# EAGLE library part ISD1740 (library rlc)
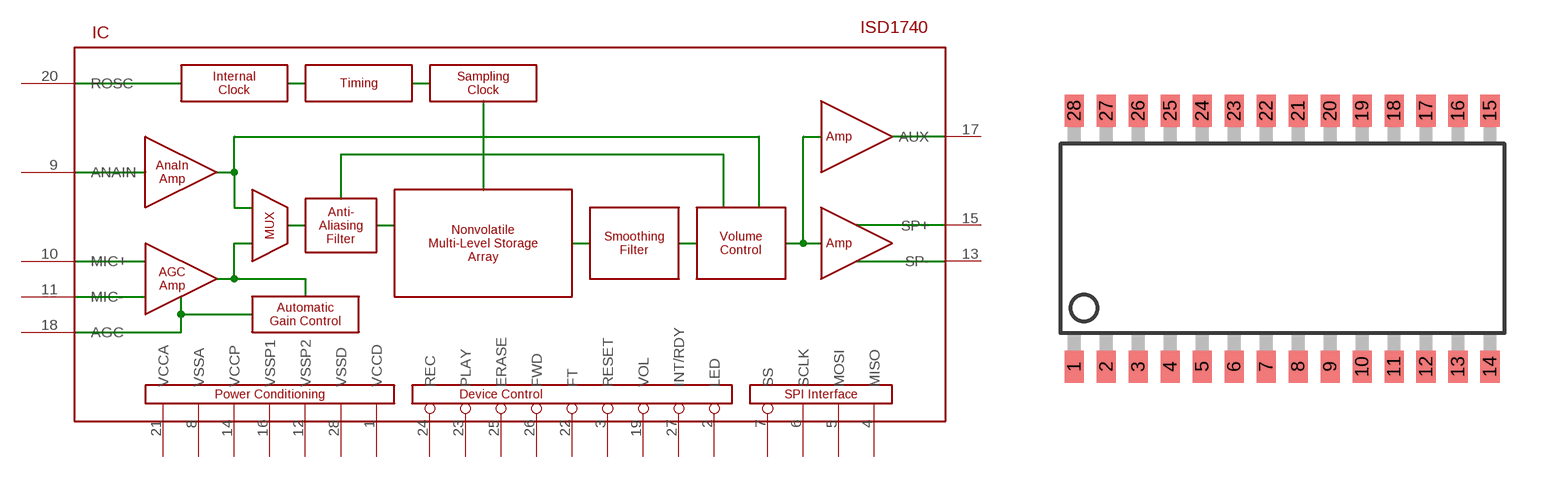
[diagram p5: symbol with the pads of SO-28W; footprint SO-28W]

Designator prefix IC

## ISD1740  [SO-28W]
1  VCCD
2  LED
3  RESET
4  MISO
5  MOSI
6  SCLK
7  SS
8  VSSA
9  ANAIN
10  MIC+
11  MIC-
12  VSSP2
13  SP-
14  VCCP
15  SP+
16  VSSP1
17  AUX
18  AGC
19  VOL
20  ROSC
21  VCCA
22  FT
23  PLAY
24  REC
25  ERASE
26  FWD
27  INT/RDY
28  VSSD

## Footprint SO-28W (pad centres in mm)
Small Outline Wide Plastic Gull Wing 300-mil body, package type SO
smd 0.762 x 1.27: 1 -8.255,-5.08; 2 -6.985,-5.08; 3 -5.715,-5.08; 4 -4.445,-5.08; 5 -3.175,-5.08; 6 -1.905,-5.08; 7 -0.635,-5.08; 8 0.635,-5.08; 9 1.905,-5.08; 10 3.175,-5.08; 11 4.445,-5.08; 12 5.715,-5.08; 13 6.985,-5.08; 14 8.255,-5.08; 15 8.255,5.08; 16 6.985,5.08; 17 5.715,5.08; 18 4.445,5.08; 19 3.175,5.08; 20 1.905,5.08; 21 0.635,5.08; 22 -0.635,5.08; 23 -1.905,5.08; 24 -3.175,5.08; 25 -4.445,5.08; 26 -5.715,5.08; 27 -6.985,5.08; 28 -8.255,5.08